# Altium footprint library 4wire pad.PcbLib: 1 footprints
Each footprint in its own frame and in the unit in brackets; x right, y up, seen from the top. Pads: shape width x height; smd on the part's side, far side on the other; paste and mask are expansions set on the pad; w line width, h text height; cw(c..) or ccw(c..) is an arc to the next point about the centre after c.
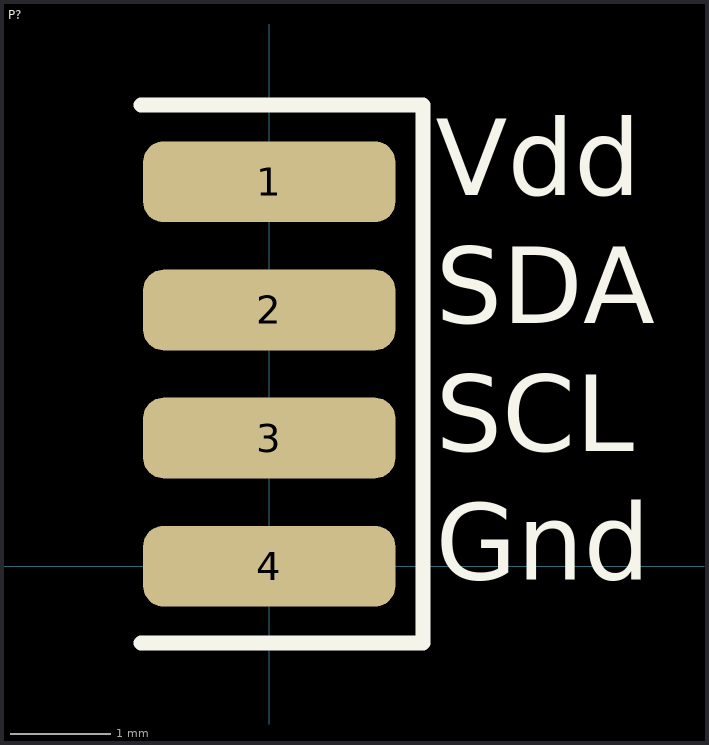
[diagram p0: the footprint, top view; thin cyan lines are the x and y axes]

## P? [mm] "4 wire pad"
pads (4):
  rrect50% 2.5x0.8 smd: 1(0,3.81) 2(0,2.54) 3(0,1.27) 4(0,0)
Top Overlay:
  lines w0.15: -1.27,-0.762 1.524,-0.762 1.524,4.572 -1.27,4.572
  text "Gnd" at 1.651,-0.381 h1.3
  text "SCL" at 1.651,0.889 h1.3
  text "SDA" at 1.651,2.159 h1.3
  text "Vdd" at 1.651,3.429 h1.3